# EAGLE library part PIC32MX1XX/2XX (library mic)
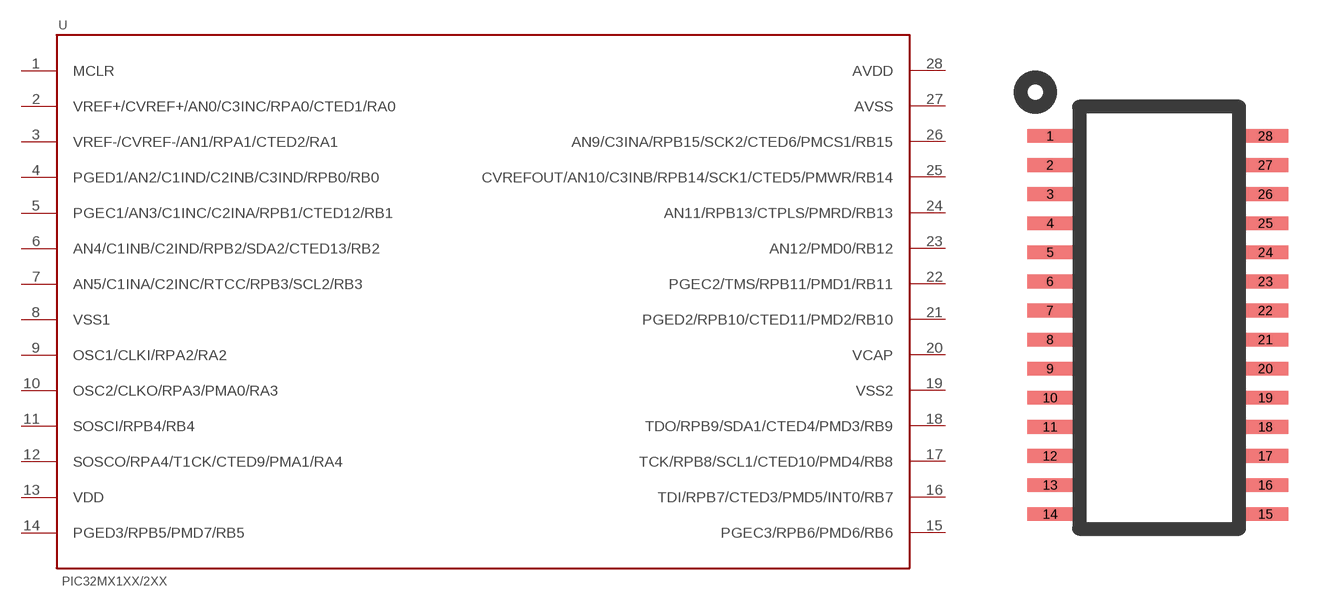
[diagram p0: symbol with the pads of SOIC-28; footprint SOIC-28]

Designator prefix U

## PIC32MX1XX/2XX  [SOIC-28]
1  MCLR
2  VREF+/CVREF+/AN0/C3INC/RPA0/CTED1/RA0
3  VREF-/CVREF-/AN1/RPA1/CTED2/RA1
4  PGED1/AN2/C1IND/C2INB/C3IND/RPB0/RB0
5  PGEC1/AN3/C1INC/C2INA/RPB1/CTED12/RB1
6  AN4/C1INB/C2IND/RPB2/SDA2/CTED13/RB2
7  AN5/C1INA/C2INC/RTCC/RPB3/SCL2/RB3
8  VSS1
9  OSC1/CLKI/RPA2/RA2
10  OSC2/CLKO/RPA3/PMA0/RA3
11  SOSCI/RPB4/RB4
12  SOSCO/RPA4/T1CK/CTED9/PMA1/RA4
13  VDD
14  PGED3/RPB5/PMD7/RB5
15  PGEC3/RPB6/PMD6/RB6
16  TDI/RPB7/CTED3/PMD5/INT0/RB7
17  TCK/RPB8/SCL1/CTED10/PMD4/RB8
18  TDO/RPB9/SDA1/CTED4/PMD3/RB9
19  VSS2
20  VCAP
21  PGED2/RPB10/CTED11/PMD2/RB10
22  PGEC2/TMS/RPB11/PMD1/RB11
23  AN12/PMD0/RB12
24  AN11/RPB13/CTPLS/PMRD/RB13
25  CVREFOUT/AN10/C3INB/RPB14/SCK1/CTED5/PMWR/RB14
26  AN9/C3INA/RPB15/SCK2/CTED6/PMCS1/RB15
27  AVSS
28  AVDD

## Footprint SOIC-28 (pad centres in mm)
smd 2 x 0.6: 1 0,0; 2 0,-1.27; 3 0,-2.54; 4 0,-3.81; 5 0,-5.08; 6 0,-6.35; 7 0,-7.62; 8 0,-8.89; 9 0,-10.16; 10 0,-11.43; 11 0,-12.7; 12 0,-13.97; 13 0,-15.24; 14 0,-16.51; 15 9.4,-16.51; 16 9.4,-15.24; 17 9.4,-13.97; 18 9.4,-12.7; 19 9.4,-11.43; 20 9.4,-10.16; 21 9.4,-8.89; 22 9.4,-7.62; 23 9.4,-6.35; 24 9.4,-5.08; 25 9.4,-3.81; 26 9.4,-2.54; 27 9.4,-1.27; 28 9.4,0